# EAGLE library part SN74HC04_INVERTER (library COAX_SPDIF)
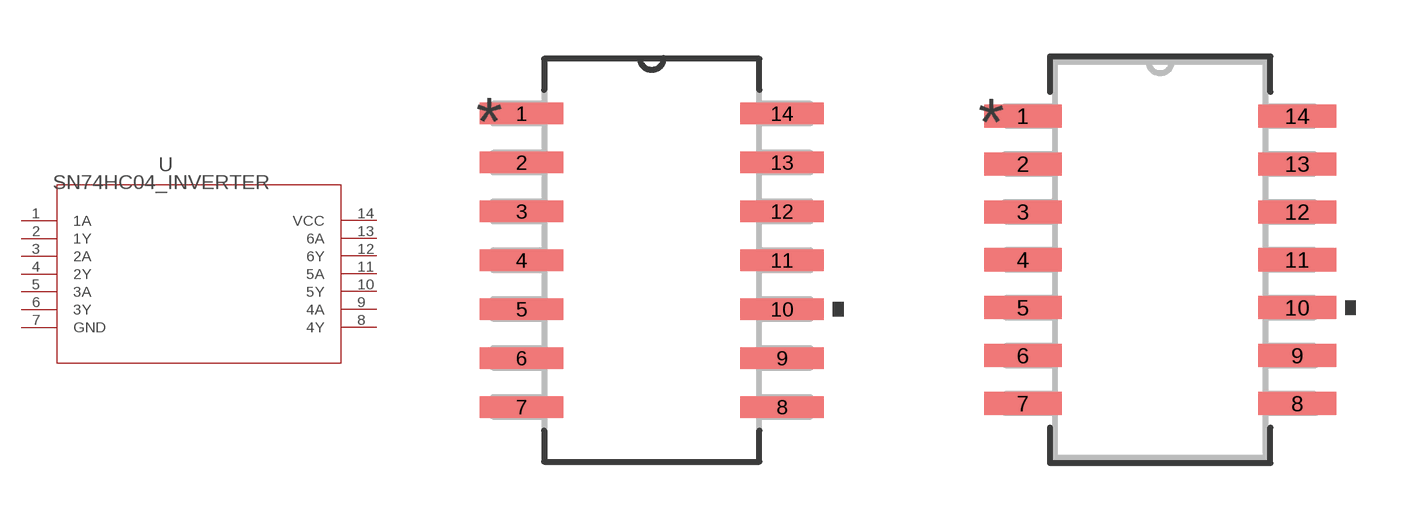
[diagram p0: symbol with the pads of NS14; footprints NS14, NS14-M]

Designator prefix U

## SN74HC04_INVERTER (DATASHEET_URL: http://www.ti.com/lit/gpn/SN74HC04; DESCRIPTION: Hex Inverters; FAMILY_NAME: INVERTING BUFFER/DRIVER; GENERIC_PART_NUMBER: SN74HC04; INDUSTRY_STD_PKG_TYPE: SO; MANUFACTURER: Texas Instruments; PACKAGE_DESIGNATOR: NS; PIN_COUNT: 14)  [NS14]
1  1A  in
2  1Y  out
3  2A  in
4  2Y  out
5  3A  in
6  3Y  out
7  GND  pwr
8  4Y  out
9  4A  in
10  5Y  out
11  5A  in
12  6Y  out
13  6A  in
14  VCC  pwr

## SN74HC04_INVERTERNS14-M (DATASHEET_URL: http://www.ti.com/lit/gpn/SN74HC04; DESCRIPTION: Hex Inverters; FAMILY_NAME: INVERTING BUFFER/DRIVER; GENERIC_PART_NUMBER: SN74HC04; INDUSTRY_STD_PKG_TYPE: SO; MANUFACTURER: Texas Instruments; PACKAGE_DESIGNATOR: NS; PIN_COUNT: 14)  [NS14-M]
Pads as for NS14

## SN74HC04_INVERTERNS14-L (DATASHEET_URL: http://www.ti.com/lit/gpn/SN74HC04; DESCRIPTION: Hex Inverters; FAMILY_NAME: INVERTING BUFFER/DRIVER; GENERIC_PART_NUMBER: SN74HC04; INDUSTRY_STD_PKG_TYPE: SO; MANUFACTURER: Texas Instruments; PACKAGE_DESIGNATOR: NS; PIN_COUNT: 14)  [NS14-L]
Pads as for NS14

## Footprint NS14 (pad centres in mm)
smd 2.159 x 0.559: 1 -3.378,3.81; 2 -3.378,2.54; 3 -3.378,1.27; 4 -3.378,0; 5 -3.378,-1.27; 6 -3.378,-2.54; 7 -3.378,-3.81; 8 3.378,-3.81; 9 3.378,-2.54; 10 3.378,-1.27; 11 3.378,0; 12 3.378,1.27; 13 3.378,2.54; 14 3.378,3.81

## Footprint NS14-M (pad centres in mm)
smd 2.057 x 0.61: 1 -3.632,3.81; 2 -3.632,2.54; 3 -3.632,1.27; 4 -3.632,0; 5 -3.632,-1.27; 6 -3.632,-2.54; 7 -3.632,-3.81; 8 3.632,-3.81; 9 3.632,-2.54; 10 3.632,-1.27; 11 3.632,0; 12 3.632,1.27; 13 3.632,2.54; 14 3.632,3.81

## Footprint NS14-L (pad centres in mm)
smd 1.448 x 0.508: 1 -3.531,3.81; 2 -3.531,2.54; 3 -3.531,1.27; 4 -3.531,0; 5 -3.531,-1.27; 6 -3.531,-2.54; 7 -3.531,-3.81; 8 3.531,-3.81; 9 3.531,-2.54; 10 3.531,-1.27; 11 3.531,0; 12 3.531,1.27; 13 3.531,2.54; 14 3.531,3.81